# EAGLE library part SPPH410100 (library logick)
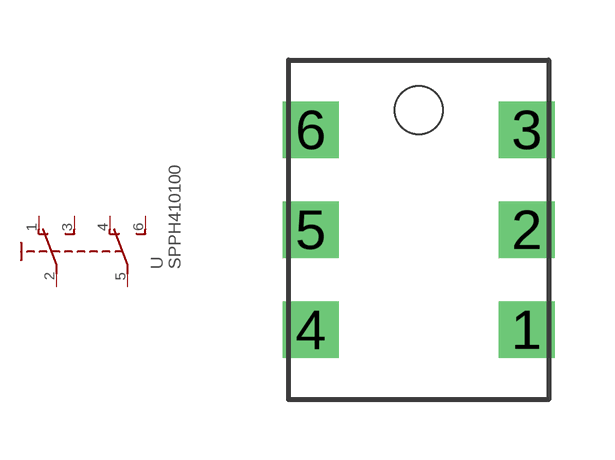
[diagram p5: symbol with the pads of SPPH410100; footprint SPPH410100]

Designator prefix -

## SPPH410100  [SPPH410100]
1  O  pas
2  P  pas
3  S  pas
4  O1  pas
5  P1  pas
6  S1  pas

## Footprint SPPH410100 (pad centres in mm)
drill 0.9 square: 1 2.7,-2.5; 2 2.7,0; 3 2.7,2.5; 4 -2.7,-2.5; 5 -2.7,0; 6 -2.7,2.5
hole 1.2 at 0,3